# Altium footprint library ALTAIR_PD_SOP.PcbLib: 10 footprints
Each footprint in its own frame and in the unit in brackets; x right, y up, seen from the top. Pads: shape width x height; smd on the part's side, far side on the other; paste and mask are expansions set on the pad; w line width, h text height; cw(c..) or ccw(c..) is an arc to the next point about the centre after c.
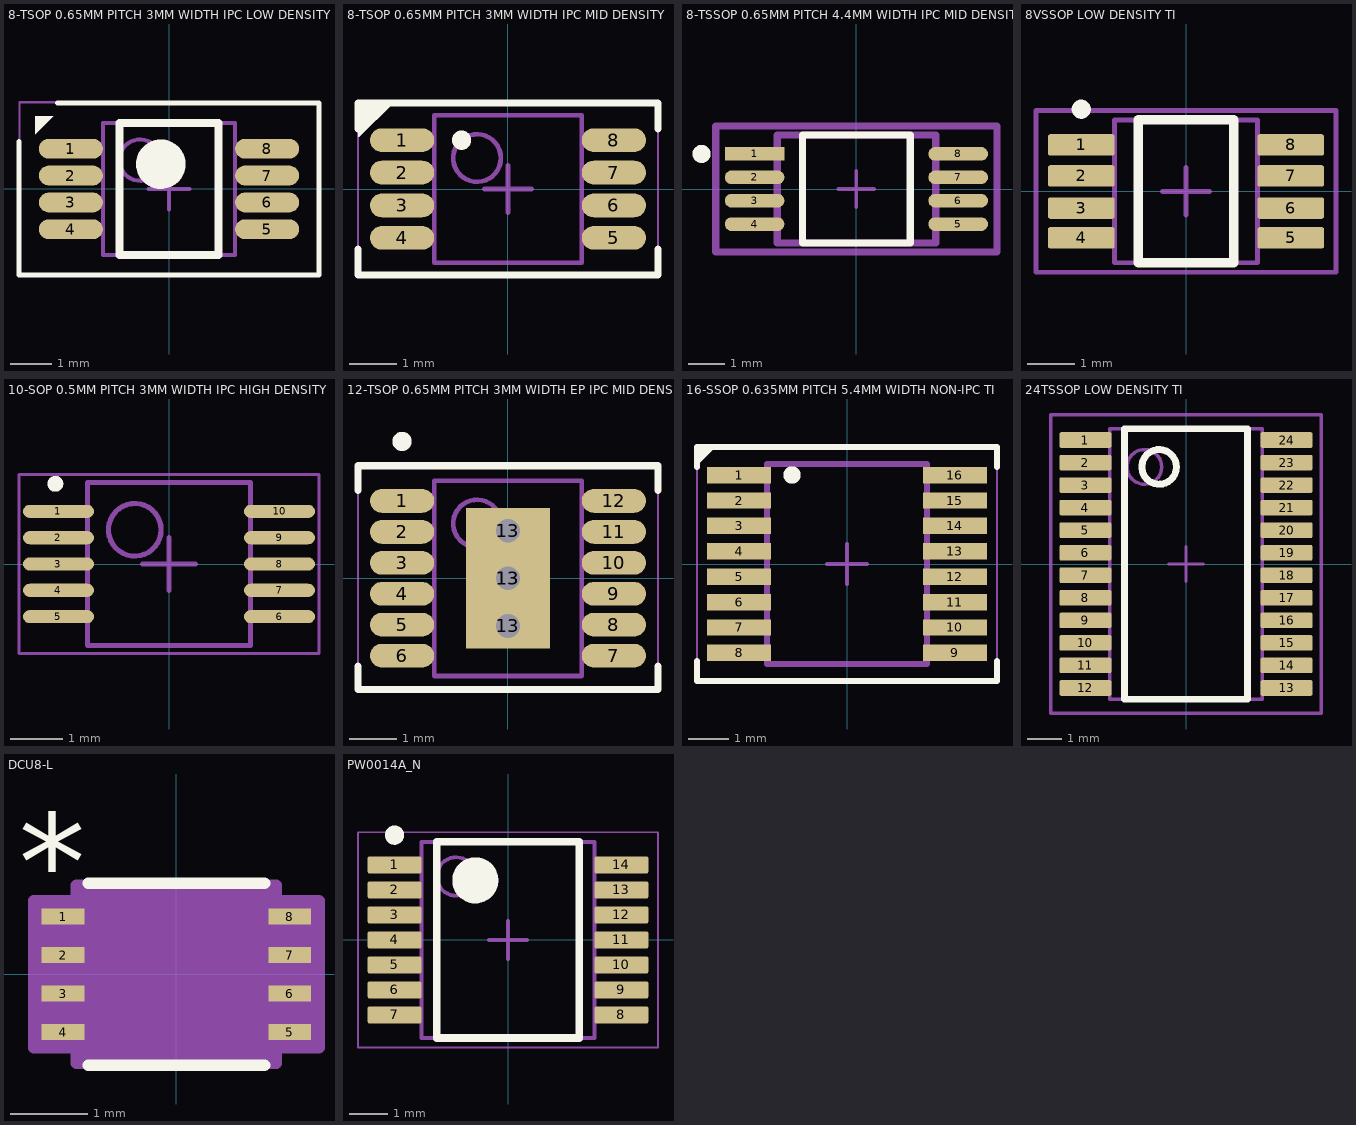
[diagram p0: the footprints below, top view; thin cyan lines are the x and y axes]

## 8-TSOP 0.65MM PITCH 3MM WIDTH IPC LOW DENSITY [mm] "TSOP65P490X110-8M"
pads (8):
  oval 1.55x0.48 smd mask-0.05: 1(-2.375,0.975) 2(-2.375,0.325) 3(-2.375,-0.325) 4(-2.375,-0.975) 5(2.375,-0.975) 6(2.375,-0.325) 7(2.375,0.325) 8(2.375,0.975)
Top Overlay:
  circle w0.6: c-0.2,0.6 r0.3
  region: -3.245,1.768 -3.245,1.328 -2.805,1.768
  lines w0.127: -3.632,1.148 -3.632,-2.083 3.632,-2.083 3.632,2.083 -2.7,2.083
  lines w0.2: -1.2,-1.6 -1.2,1.6 1.2,1.6 1.2,-1.6 -1.2,-1.6
Top Assembly:
  circle w0.1: c-0.7,0.7 r0.5
  lines w0.1: -1.6,-1.6 1.6,-1.6 1.6,1.6 -1.6,1.6 -1.6,-1.6
Top Courtyard:
  lines w0.05: -3.625,-2.1 3.625,-2.1 3.625,2.1 -3.625,2.1 -3.625,-2.1
  lines w0.1: -0.5,0 0.5,0 ; 0,-0.5 0,0.5
3D body "TSOP65P490X110-8M.step": height 1.1, standoff 0, extent -2.45,-1.6 2.45,1.6

## 8-TSOP 0.65MM PITCH 3MM WIDTH IPC MID DENSITY [mm] "TSOP65P490X110-8N"
pads (8):
  oval 1.35x0.5 smd mask-0.02: 1(-2.225,1.025) 2(-2.225,0.345) 3(-2.225,-0.345) 4(-2.225,-1.025) 5(2.225,-1.025) 6(2.225,-0.345) 7(2.225,0.345) 8(2.225,1.025)
Top Overlay:
  circle w0.254: c-0.975,1.025 r0.075
  region: -3.15,1.803 -3.15,1.092 -3.124,1.092 -2.413,1.803
  lines w0.15: -3.15,-1.267 -3.15,-1.803 3.15,-1.803 3.15,-1.267 ; -3.15,1.267 -3.15,1.803 3.15,1.803 3.15,1.267
Top Assembly:
  circle w0.1: c-0.65,0.65 r0.5
  lines w0.1: -1.55,-1.55 -1.55,1.55 1.55,1.55 1.55,-1.55 -1.55,-1.55
Top Courtyard:
  lines w0.05: -3.15,-1.8 -3.15,1.8 3.15,1.8 3.15,-1.8 -3.15,-1.8
  lines w0.1: -0.5,0 0.5,0 ; 0,-0.5 0,0.5
3D body "TSOP65P490X110-8N.step": height 1.1, standoff 0, extent -2.45,-1.55 2.45,1.55

## 8-TSSOP 0.65MM PITCH 4.4MM WIDTH IPC MID DENSITY [mm] "FP-PW0008A-IPC_B, Texas Instruments branding"
pads (8):
  rect 1.655x0.381 smd paste+0 mask+0: 1(-2.825,0.975)
  rrect100% 1.655x0.381 smd paste+0 mask+0: 2(-2.825,0.325) 3(-2.825,-0.325) 4(-2.825,-0.975) 5(2.825,-0.975) 6(2.825,-0.325) 7(2.825,0.325) 8(2.825,0.975)
Top Overlay:
  circle w0.25: c-4.3,0.975 r0.125
  lines w0.2: -1.498,-1.5 -1.498,1.5 1.498,1.5 1.498,-1.5 -1.498,-1.5
Top Assembly:
  lines w0.2: -3.903,-1.75 3.903,-1.75 3.903,1.75 -3.903,1.75 -3.903,-1.75
  text ".Designator" at 0,0.188 h1
Top Courtyard:
  lines w0.2: -3.903,-1.75 3.903,-1.75 3.903,1.75 -3.903,1.75 -3.903,-1.75
Top 3D Body:
  lines w0.2: -2.2,-1.5 2.2,-1.5 2.2,1.5 -2.2,1.5 -2.2,-1.5
Top Component Center:
  lines w0.1: -0.5,0 0.5,0 ; 0,-0.5 0,0.5
3D body "IC_Texas_Instruments_LM2903BIPWR_eec.STEP": height 0.25, standoff 0, extent -3.903,-1.75 3.903,1.75

## 8VSSOP LOW DENSITY TI [mm]
pads (8):
  rrect22% 1.4x0.45 smd mask+0.025: 1(-2.2,0.975) 2(-2.2,0.325) 3(-2.2,-0.35) 4(-2.2,-0.975) 5(2.2,-0.975) 6(2.2,-0.35) 7(2.2,0.325) 8(2.2,0.975)
Top Overlay:
  circle w0.25: c-2.2,1.725 r0.075
  lines w0.2: -1,-1.5 -1,1.5 1,1.5 1,-1.5 -1,-1.5
Top Courtyard:
  lines w0.1: -3.15,-1.7 3.15,-1.7 3.15,1.7 -3.15,1.7 -3.15,-1.7
Top 3D Body:
  lines w0.1: -1.5,-1.5 1.5,-1.5 1.5,1.5 -1.5,1.5 -1.5,-1.5
Top Component Center:
  lines w0.1: -0.5,0 0.5,0 ; 0,-0.5 0,0.5
3D body "DGK0008A.stp": height 1.1, standoff 0, extent -2.451,-1.499 2.451,1.499

## 10-SOP 0.5MM PITCH 3MM WIDTH IPC HIGH DENSITY [mm] "SOP, 10-Leads, Body 3x3mm, Pitch 0.50mm, IPC High Density"
height 1.1
pads (10):
  oval 1.35x0.25 smd: 1(-2.1,1) 2(-2.1,0.5) 3(-2.1,0) 4(-2.1,-0.5) 5(-2.1,-1) 6(2.1,-1) 7(2.1,-0.5) 8(2.1,0) 9(2.1,0.5) 10(2.1,1)
Top Overlay:
  circle w0.15: c-2.159,1.524 r0.075
Mechanical 13:
  circle w0.1: c-0.65,0.65 r0.5
  lines w0.1: -1.55,-1.55 -1.55,1.55 1.55,1.55 1.55,-1.55 -1.55,-1.55
Mechanical 15:
  lines w0.05: -2.85,-1.7 -2.85,1.7 2.85,1.7 2.85,-1.7 -2.85,-1.7
  lines w0.1: -0.5,0 0.5,0 ; 0,-0.5 0,0.5
3D body "LT1991IMS_TRPBF.step": height 1.1, standoff 0, extent -2.45,-1.5 2.45,1.5

## 12-TSOP 0.65MM PITCH 3MM WIDTH EP IPC MID DENSITY [mm] "TSOP65P490X110_HS-13N"
pads (16):
  oval 1.35x0.5 smd mask-0.03: 1(-2.225,1.625) 2(-2.225,0.975) 3(-2.225,0.325) 4(-2.225,-0.325) 5(-2.225,-0.975) 6(-2.225,-1.625) 7(2.225,-1.625) 8(2.225,-0.975) 9(2.225,-0.325) 10(2.225,0.325) 11(2.225,0.975) 12(2.225,1.625)
  round 0.8 hole 0.5 mask-0.03: 13(0,-1) 13(0,0) 13(0,1)
  rect 1.76x2.95 smd: 13(0,0)
Top Overlay:
  circle w0.254: c-2.225,2.875 r0.075
  lines w0.15: -3.15,-1.843 -3.15,-2.337 3.15,-2.337 3.15,-1.843 ; -3.15,1.843 -3.15,2.362 3.15,2.362 3.15,1.843
Top Assembly:
  circle w0.1: c-0.65,1.15 r0.5
  lines w0.1: -1.55,-2.05 -1.55,2.05 1.55,2.05 1.55,-2.05 -1.55,-2.05
Top Courtyard:
  lines w0.05: -3.15,-2.35 -3.15,2.35 3.15,2.35 3.15,-2.35 -3.15,-2.35
  lines w0.1: -0.5,0 0.5,0 ; 0,-0.5 0,0.5
3D body "TSOP65P490X110_HS-13N.step": height 1.1, standoff 0, extent -2.45,-2.05 2.45,2.05

## 16-SSOP 0.635MM PITCH 5.4MM WIDTH NON-IPC TI [mm]
pads (16):
  rect 1.6x0.41 smd mask+0: 1(-2.7,2.222) 2(-2.7,1.587) 3(-2.7,0.953) 4(-2.7,0.318) 5(-2.7,-0.318) 6(-2.7,-0.953) 7(-2.7,-1.587) 8(-2.7,-2.222) 9(2.7,-2.222) 10(2.7,-1.587) 11(2.7,-0.953) 12(2.7,-0.318) 13(2.7,0.318) 14(2.7,0.953) 15(2.7,1.587) 16(2.7,2.222)
Top Overlay:
  circle w0.254: c-1.375,2.225 r0.09
  region: -3.75,2.925 -3.75,2.475 -3.3,2.925
  lines w0.15: -3.75,-2.425 -3.75,-2.925 3.75,-2.925 3.75,-2.425 ; -3.75,2.425 -3.75,2.925 3.75,2.925 3.75,2.425
Top Assembly:
  lines w0.15: -2,-2.5 -2,2.5 2,2.5 2,-2.5 -2,-2.5
Top Courtyard:
  lines w0.05: -3.75,-2.925 3.75,-2.925 3.75,2.925 -3.75,2.925 -3.75,-2.925
Top Component Center:
  lines w0.1: -0.5,0 0.5,0 ; 0,-0.5 0,0.5
3D body "ISO7760DBQR.step": height 1.75, standoff 0, extent -3.005,-2.478 2.99,2.425

## 24TSSOP LOW DENSITY TI [mm] "Reference document: PW0024A"
pads (24):
  rrect22% 1.5x0.45 smd mask+0.025: 1(-2.9,3.575) 2(-2.9,2.925) 3(-2.9,2.275) 4(-2.9,1.625) 5(-2.9,0.975) 6(-2.9,0.325) 7(-2.9,-0.325) 8(-2.9,-0.975) 9(-2.9,-1.625) 10(-2.9,-2.275) 11(-2.9,-2.925) 12(-2.9,-3.575) 13(2.9,-3.575) 14(2.9,-2.925) 15(2.9,-2.275) 16(2.9,-1.625) 17(2.9,-0.975) 18(2.9,-0.325) 19(2.9,0.325) 20(2.9,0.975) 21(2.9,1.625) 22(2.9,2.275) 23(2.9,2.925) 24(2.9,3.575)
Top Overlay:
  circle w0.2: c-0.775,2.8 r0.5
  lines w0.2: -1.775,-3.9 1.775,-3.9 1.775,3.9 -1.775,3.9 -1.775,-3.9
Top Courtyard:
  lines w0.1: -3.9,-4.3 -3.9,4.3 3.9,4.3 3.9,-4.3 -3.9,-4.3
Top 3D Body:
  circle w0.1: c-1.2,2.8 r0.5
  lines w0.1: -2.2,-3.9 2.2,-3.9 2.2,3.9 -2.2,3.9 -2.2,-3.9
Top Component Center:
  lines w0.1: -0.5,0 0.5,0 ; 0,-0.5 0,0.5
3D body "PW0024A.stp": height 1.13, standoff 0, extent -3.2,-3.9 3.2,3.9

## DCU8-L [mm]
pads (8):
  rect 0.556x0.204 smd paste+0 mask+0: 1(-1.472,0.75) 2(-1.472,0.25) 3(-1.472,-0.25) 4(-1.472,-0.75) 5(1.472,-0.75) 6(1.472,-0.25) 7(1.472,0.25) 8(1.472,0.75)
Top Overlay:
  lines w0.152: -1.145,-1.181 1.145,-1.181 ; -1.145,1.181 1.145,1.181
  text "*" at -2.044,0.827 h1.27
  text ".Designator" at -3.492,-0.635 h1.27
Mechanical 13:
  lines w0.025: -0.305,1.054 ccw(c0,1.054) 0.305,1.054 ; -1.6,-0.877 -1.194,-0.877 -1.194,-0.623 -1.6,-0.623 -1.6,-0.877 ; -1.6,-0.377 -1.194,-0.377 -1.194,-0.123 -1.6,-0.123 -1.6,-0.377 ; -1.6,0.123 -1.194,0.123 -1.194,0.377 -1.6,0.377 -1.6,0.123 ; -1.6,0.623 -1.194,0.623 -1.194,0.877 -1.6,0.877 -1.6,0.623 ; -1.194,-1.054 -1.194,1.054 1.194,1.054 1.194,-1.054 -1.194,-1.054 ; 1.194,-0.877 1.6,-0.877 1.6,-0.623 1.194,-0.623 1.194,-0.877 ; 1.194,-0.377 1.6,-0.377 1.6,-0.123 1.194,-0.123 1.194,-0.377 ; 1.194,0.123 1.6,0.123 1.6,0.377 1.194,0.377 1.194,0.123 ; 1.194,0.623 1.6,0.623 1.6,0.877 1.194,0.877 1.194,0.623
  text ".Designator" at -3.492,-0.635 h1.27
  text "*" at -1.13,-0.292 h1.27
Mechanical 15:
  region: -1.295,-0.954 -1.852,-0.954 -1.852,0.954 -1.295,0.954 -1.295,1.156 1.295,1.156 1.295,0.954 1.852,0.954 1.852,-0.954 1.295,-0.954 1.295,-1.156 -1.295,-1.156
  lines w0.152: -1.852,-0.954 -1.295,-0.954 -1.295,-1.156 1.295,-1.156 1.295,-0.954 1.852,-0.954 1.852,0.954 1.295,0.954 1.295,1.156 -1.295,1.156 -1.295,0.954 -1.852,0.954 -1.852,-0.954
3D body "DCU8.step": height 0.89, standoff 0, extent -1.6,-1.054 1.6,1.054

## PW0014A_N [mm] "SOP, 14-Leads, Body 5.1x4.5mm, Pitch 0.65mm, IPC Medium Density"
height 1.2
pads (14):
  rrect22% 1.4x0.45 smd: 1(-2.95,1.95) 2(-2.95,1.3) 3(-2.95,0.65) 4(-2.95,0) 5(-2.95,-0.65) 6(-2.95,-1.3) 7(-2.95,-1.95) 8(2.95,-1.95) 9(2.95,-1.3) 10(2.95,-0.65) 11(2.95,0) 12(2.95,0.65) 13(2.95,1.3) 14(2.95,1.95)
Top Overlay:
  circle w0.25: c-2.95,2.725 r0.125
  circle w0.6: c-0.85,1.55 r0.3
  lines w0.2: -1.85,-2.55 -1.85,2.55 1.85,2.55 1.85,-2.55 -1.85,-2.55
Mechanical 1:
  text ".Designator" at -1.524,-0.508 h1.02
Mechanical 13:
  circle w0.1: c-1.35,1.65 r0.5
  lines w0.1: -2.25,-2.55 -2.25,2.55 2.25,2.55 2.25,-2.55 -2.25,-2.55
Mechanical 15:
  lines w0.05: -3.9,-2.8 -3.9,2.8 3.9,2.8 3.9,-2.8 -3.9,-2.8
  lines w0.1: -0.5,0 0.5,0 ; 0,-0.5 0,0.5
3D body "PW0014AakaMTC14.stp": height 1, standoff 0, extent -3.21,-2.5 3.21,2.5